# EAGLE library part DS08E (library EW_switches)
DIL/CODE SWITCH
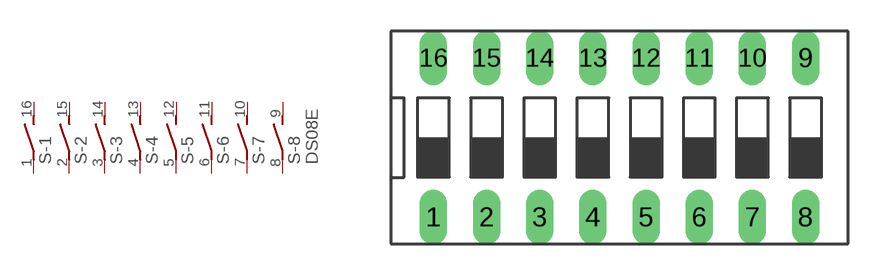
[diagram p60: symbol with the pads of DS-08; footprint DS-08]

Designator prefix S; gates -1=S-7 -2=S-7 -3=S-7 -4=S-7 -5=S-7 -6=S-7 -7=S-7 -8=S+V-7

## DS08E (MPN: DS08; OC_FARNELL: unknown; OC_NEWARK: 73J0071)  [DS-08]
1  -1:1  pas
2  -2:1  pas
3  -3:1  pas
4  -4:1  pas
5  -5:1  pas
6  -6:1  pas
7  -7:1  pas
8  -8:1  pas
9  -8:2  pas
10  -7:2  pas
11  -6:2  pas
12  -5:2  pas
13  -4:2  pas
14  -3:2  pas
15  -2:2  pas
16  -1:2  pas

## Footprint DS-08 (pad centres in mm)
DIL/CODE SWITCH Mors distributor Buerklin, 17G562
drill 0.813 long: 1 -8.89,-3.81; 2 -6.35,-3.81; 3 -3.81,-3.81; 4 -1.27,-3.81; 5 1.27,-3.81; 6 3.81,-3.81; 7 6.35,-3.81; 8 8.89,-3.81; 9 8.89,3.81; 10 6.35,3.81; 11 3.81,3.81; 12 1.27,3.81; 13 -1.27,3.81; 14 -3.81,3.81; 15 -6.35,3.81; 16 -8.89,3.81